# Altium schematic symbol library vitech_connectors.SchLib: 4 symbols
Pins are listed as number, name and electrical type; pins without a type are passive.

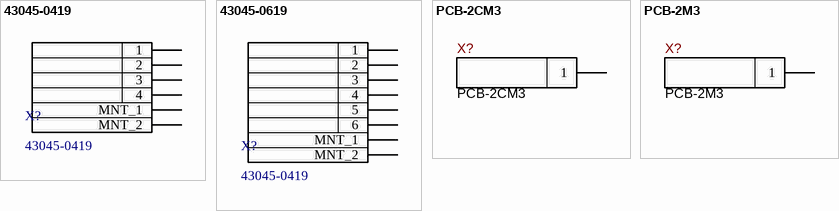
[diagram p0: symbols 43045-0419 to PCB-2M3]

## 43045-0419
designator X?
Micro-Fit 3.0 Vertical Header, 3.00mm Pitch, Dual Row, 4 Circuits, with Solder Tab, Gold, Glow-Wire Capable, Black, Tape and Reel; Manufacturer: Molex; ComponentLink1Description: Datasheet; ComponentLink1URL: https://www.molex.com/en-us/products/part-detail/430450419?display=pdf; Part Number: 43045-0419; Component Type: SMD
footprint 43045-0419
pins: 1, 2, 3, 4, 5 MNT_1, 6 MNT_2

## 43045-0619
designator X?, comment 43045-0419
Micro-Fit 3.0 Vertical Header, 3.00mm Pitch, Dual Row, 6 Circuits, with Solder Tab, Gold, Glow-Wire Capable, Black, Tape and Reel; Manufacturer: Molex; Part Number: 43045-0619; ComponentLink1Description: Datasheet; ComponentLink1URL: https://www.molex.com/en-us/products/part-detail/430450619?display=pdf; Component Type: SMD
footprint 43045-0619
pins: 1, 2, 3, 4, 5, 6, 7 MNT_1, 8 MNT_2

## PCB-2CM3
designator X?
Гвинтова клема для друкарського монтажу, 40 А / Матеріал - латунь луджена 0.8 мм, гвинт в комплекті.  Піни 5x7mm; Manufacturer: China; Component Status: Review_1; Replacement: NONE; Part Type: Terminal / Pluggable; Component Type: PTH; Temperature Range: -40°C ~ 105°C; Supplier 1: TME; Supplier Part Number 1: 15EDGVC-3.5-02P; Price: NONE; ComponentLink2Description: VORON; ComponentLink2URL: https://voron.ua/uk/catalog/022944--klemma_vintovaya_pcb-2cm3; Part Number: PCB-2CM3
footprint CON: 8191
pins: 1

## PCB-2M3
designator X?
Гвинтова клема кутова для друкарського монтажу, 40 А / Матеріал - латунь луджена 0.8 мм, гвинт в комплекті.  Піни 4.5x7.5mm; Manufacturer: China; Component Status: Review_1; Replacement: NONE; Part Type: Terminal / Pluggable; Component Type: PTH; Temperature Range: -40°C ~ 105°C; Supplier 1: TME; Supplier Part Number 1: PCB-2M3; Price: NONE; ComponentLink2Description: VORON; ComponentLink2URL: https://voron.ua/uk/catalog/035194--klemma_vintovaya_pcb-2m3; Part Number: PCB-2M3
footprint CON: 7781
pins: 1